# Altium footprint library Power_Switch_PcbLib.PcbLib: 8 footprints
Each footprint in its own frame and in the unit in brackets; x right, y up, seen from the top. Pads: shape width x height; smd on the part's side, far side on the other; paste and mask are expansions set on the pad; w line width, h text height; cw(c..) or ccw(c..) is an arc to the next point about the centre after c.
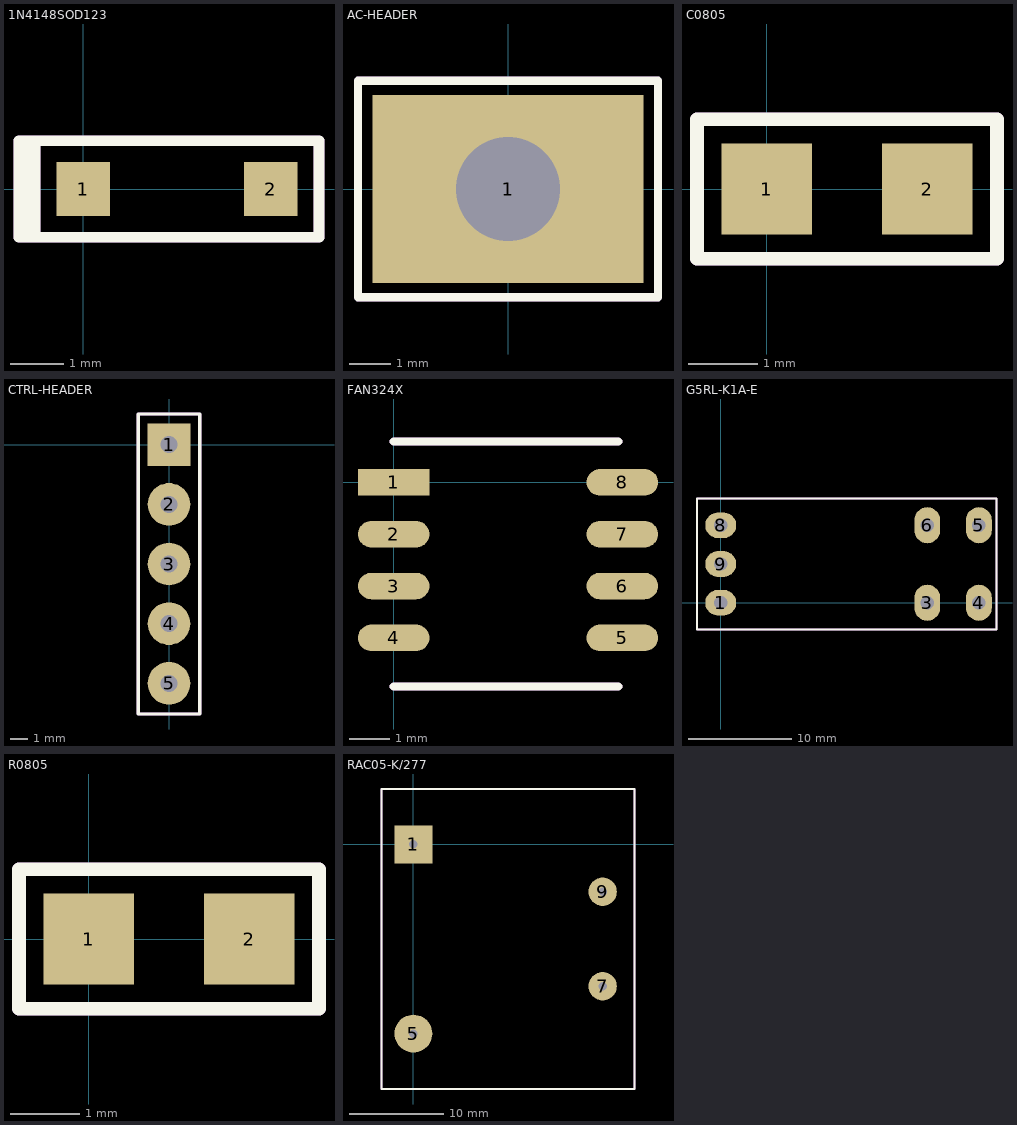
[diagram p0: the footprints below, top view; thin cyan lines are the x and y axes]

## 1N4148SOD123 [mm]
pads (2):
  rect 1x1 smd: 1(0,0) 2(3.5,0)
Top Overlay:
  lines w0.2: -1.05,-0.9 -1.05,0.9 ; -0.9,-0.9 -0.9,0.9 ; -0.9,-0.9 4.4,-0.9 4.4,0.9 -0.9,0.9 ; -0.9,-0.9 -1.2,-0.9 -1.2,0.9 -0.9,0.9
Mechanical 29:
  lines w0.2: -1.05,-0.9 -1.05,0.9 ; -0.9,-0.9 -1.2,-0.9 -1.2,0.9 -0.9,0.9 ; -0.9,-0.9 4.4,-0.9 4.4,0.9 -0.9,0.9 ; -0.9,-0.9 -0.9,0.9
  text "'.Designator'" at -0.7,-0.1 h0.7
3D body "User Library-SOD-123.step": height 1.16, standoff -0.09, extent -0.149,-0.8 3.549,0.8

## AC-HEADER [mm] "AC Header"
pads (1):
  rect 6.5x4.5 hole 2.5: 1(0,0)
Top Overlay:
  lines w0.2: -3.6,-2.6 -3.6,2.6 3.6,2.6 3.6,-2.6 -3.6,-2.6
Mechanical 29:
  lines w0.2: -3.6,-2.6 -3.6,2.6 3.6,2.6 3.6,-2.6 -3.6,-2.6
  text "'.Designator'" at -3.4,-2.2 h0.7

## C0805 [mm]
pads (2):
  rect 1.3x1.3 smd: 1(0,0) 2(2.3,0)
Top Overlay:
  lines w0.2: -1,-1 3.3,-1 3.3,1 -1,1 -1,-1
Mechanical 29:
  lines w0.2: -1,-1 -1,1 3.3,1 3.3,-1 -1,-1
  text "'.Designator'" at -0.8,0.1 h0.7
3D body "70096708.stp": height 0.89, standoff 0.01, extent 0.05,-0.725 2.25,0.725

## CTRL-HEADER [mm] "Controller Header"
pads (5):
  rect 2.5x2.5 hole 1: 1(0,0)
  round 2.5 hole 1: 2(0,-3.5) 3(0,-7) 4(0,-10.5) 5(0,-14)
Top Overlay:
  lines w0.2: -1.8,-15.8 1.8,-15.8 1.8,1.8 -1.8,1.8 -1.8,-15.8
Mechanical 29:
  lines w0.2: -1.8,-15.8 -1.8,1.8 1.8,1.8 1.8,-15.8 -1.8,-15.8
  text "'.Designator'" at -1.5,1.5 h0.7

## FAN324X [mm]
pads (8):
  rect 1.75x0.65 smd: 1(0,0)
  oval 1.75x0.65 smd: 2(0,-1.27) 3(0,-2.54) 4(0,-3.81) 5(5.6,-3.81) 6(5.6,-2.54) 7(5.6,-1.27) 8(5.6,0)
Top Overlay:
  lines w0.2: 0,-5 5.5,-5 ; 0,1 5.5,1
Mechanical 29:
  lines w0.2: 0,-5 5.5,-5 0,-5 ; 0,1 5.5,1 0,1
  text "'.Designator'" at 2.4,0.7 h0.7
3D body "User Library-SOIC-8-1.STEP": height 1.75, standoff 0, extent -0.2,-4.35 5.8,0.55

## G5RL-K1A-E [mm] "Dual-Coil Letching Relay"
pads (7):
  oval 3x2.5 hole 1.3: 1(0,0) 8(0,7.5) 9(0,3.75)
  oval 2.5x3.5 hole 1.3: 3(20,0) 4(25,0) 5(25,7.5) 6(20,7.5)
Top Overlay:
  lines w0.2: -2.3,-2.6 -2.3,10.1 26.7,10.1 26.7,-2.6 -2.3,-2.6
Mechanical 29:
  lines w0.2: -2.3,-2.6 26.7,-2.6 26.7,10.1 -2.3,10.1 -2.3,-2.6
  text "'.Designator'" at 1.7,-2.1 h0.7
3D body "G5RL-K1A-E-DC12.STEP": height 15.76, standoff -3.49, extent -2.3,-2.6 26.7,10.1

## R0805 [mm]
pads (2):
  rect 1.3x1.3 smd: 1(0,0) 2(2.3,0)
Top Overlay:
  lines w0.2: -1,-1 3.3,-1 3.3,1 -1,1 -1,-1
Mechanical 29:
  lines w0.2: -1,-1 -1,1 3.3,1 3.3,-1 -1,-1
  text "'.Designator'" at -0.7,0.1 h0.7
3D body "CR2012-0805.step": height 0.61, standoff 0.01, extent 0.15,-0.625 2.15,0.625

## RAC05-K/277 [mm] "AC/DC Converter 5W"
pads (4):
  rect 4x4 hole 0.9: 1(0,0)
  round 4 hole 0.9: 5(0,-20)
  round 3 hole 0.9: 7(20,-15) 9(20,-5)
Top Overlay:
  lines w0.2: -3.35,-25.85 -3.35,5.85 23.35,5.85 23.35,-25.85 -3.35,-25.85
Mechanical 29:
  lines w0.2: -3.35,-25.85 23.35,-25.85 23.35,5.85 -3.35,5.85 -3.35,-25.85
  text "'.Designator'" at -2.85,4.35 h0.7
3D body "RAC05-K-277.STEP": height 21.96, standoff -3.99, extent -3.35,-25.85 23.35,5.85